# EAGLE library part 15EDGRC-3.81-06P (library con-degson)
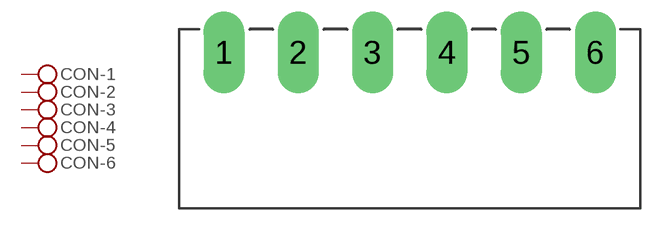
[diagram p0: symbol with the pads of 15EDGRC-3.81-06P; footprint 15EDGRC-3.81-06P]

Designator prefix CON; gates -1=PIN -2=PIN -3=PIN -4=PIN -5=PIN -6=PIN

## 15EDGRC-3.81-06P  [15EDGRC-3.81-06P]
1  -1:P$1
2  -2:P$1
3  -3:P$1
4  -4:P$1
5  -5:P$1
6  -6:P$1

## Footprint 15EDGRC-3.81-06P (pad centres in mm)
drill 1.4 long: 1 -9.525,0; 2 -5.715,0; 3 -1.905,0; 4 1.905,0; 5 5.715,0; 6 9.525,0